# EAGLE library part IAUA250N04S6N005AUMA1 (library IAUA250N04S6N005AUMA1)
Automotive MOSFET N-channel Enhancement mode Normal Level Source: Datasheet <https://www.infineon.com/dgdl/Infineon-IAUA250N04S6N005-DataSheet-v01_00-EN.pdf?fileId=8ac78c8c7f2a768a017fac2a170d3f38>
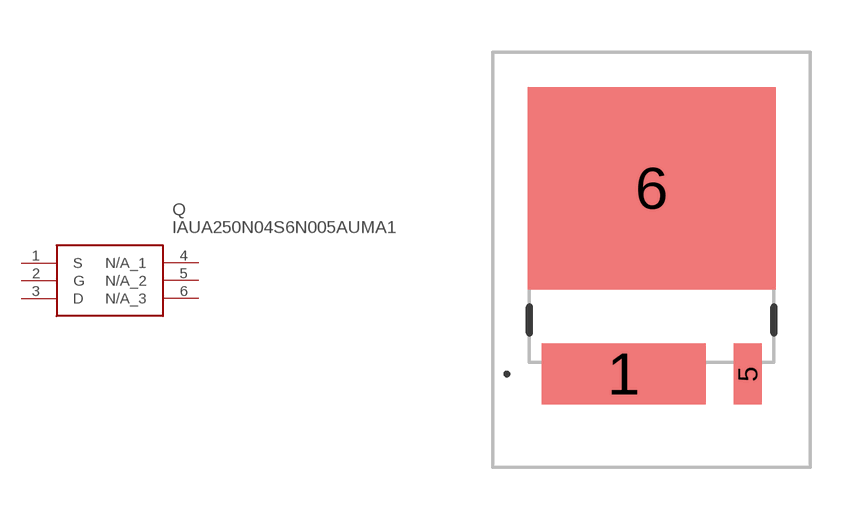
[diagram p0: symbol with the pads of IAUA250N04S6N005AUMA1; footprint IAUA250N04S6N005AUMA1]

Designator prefix Q

## IAUA250N04S6N005AUMA1 (Description: Automotive MOSFET N-channel Enhancement mode Normal Level; Height: mm; Manufacturer_Name: Infineon; Manufacturer_Part_Number: IAUA250N04S6N005AUMA1; Mouser_Part_Number: 726-IAUA250N04S6N005; Mouser_Price-Stock: https://www.mouser.co.uk/ProductDetail/Infineon-Technologies/IAUA250N04S6N005AUMA1?qs=tlsG%2FOw5FFiFyiUcNA7TDQ%3D%3D)  [IAUA250N04S6N005AUMA1]
1  S
2  G
3  D
4  N/A_1
5  N/A_2
6  N/A_3

## Footprint IAUA250N04S6N005AUMA1 (pad centres in mm)
IAUA250N04S6N005AUMA1-1
smd 4.7 x 1.75: 1 -0.8,-3.675
smd 0.8 x 1.75: 5 2.75,-3.675
smd 7.1 x 5.8: 6 0,1.651